# Altium footprint library PcbLib1.PcbLib: 17 footprints (part 1 of 2)
Each footprint in its own frame and in the unit in brackets; x right, y up, seen from the top. Pads: shape width x height; smd on the part's side, far side on the other; paste and mask are expansions set on the pad; w line width, h text height; cw(c..) or ccw(c..) is an arc to the next point about the centre after c.
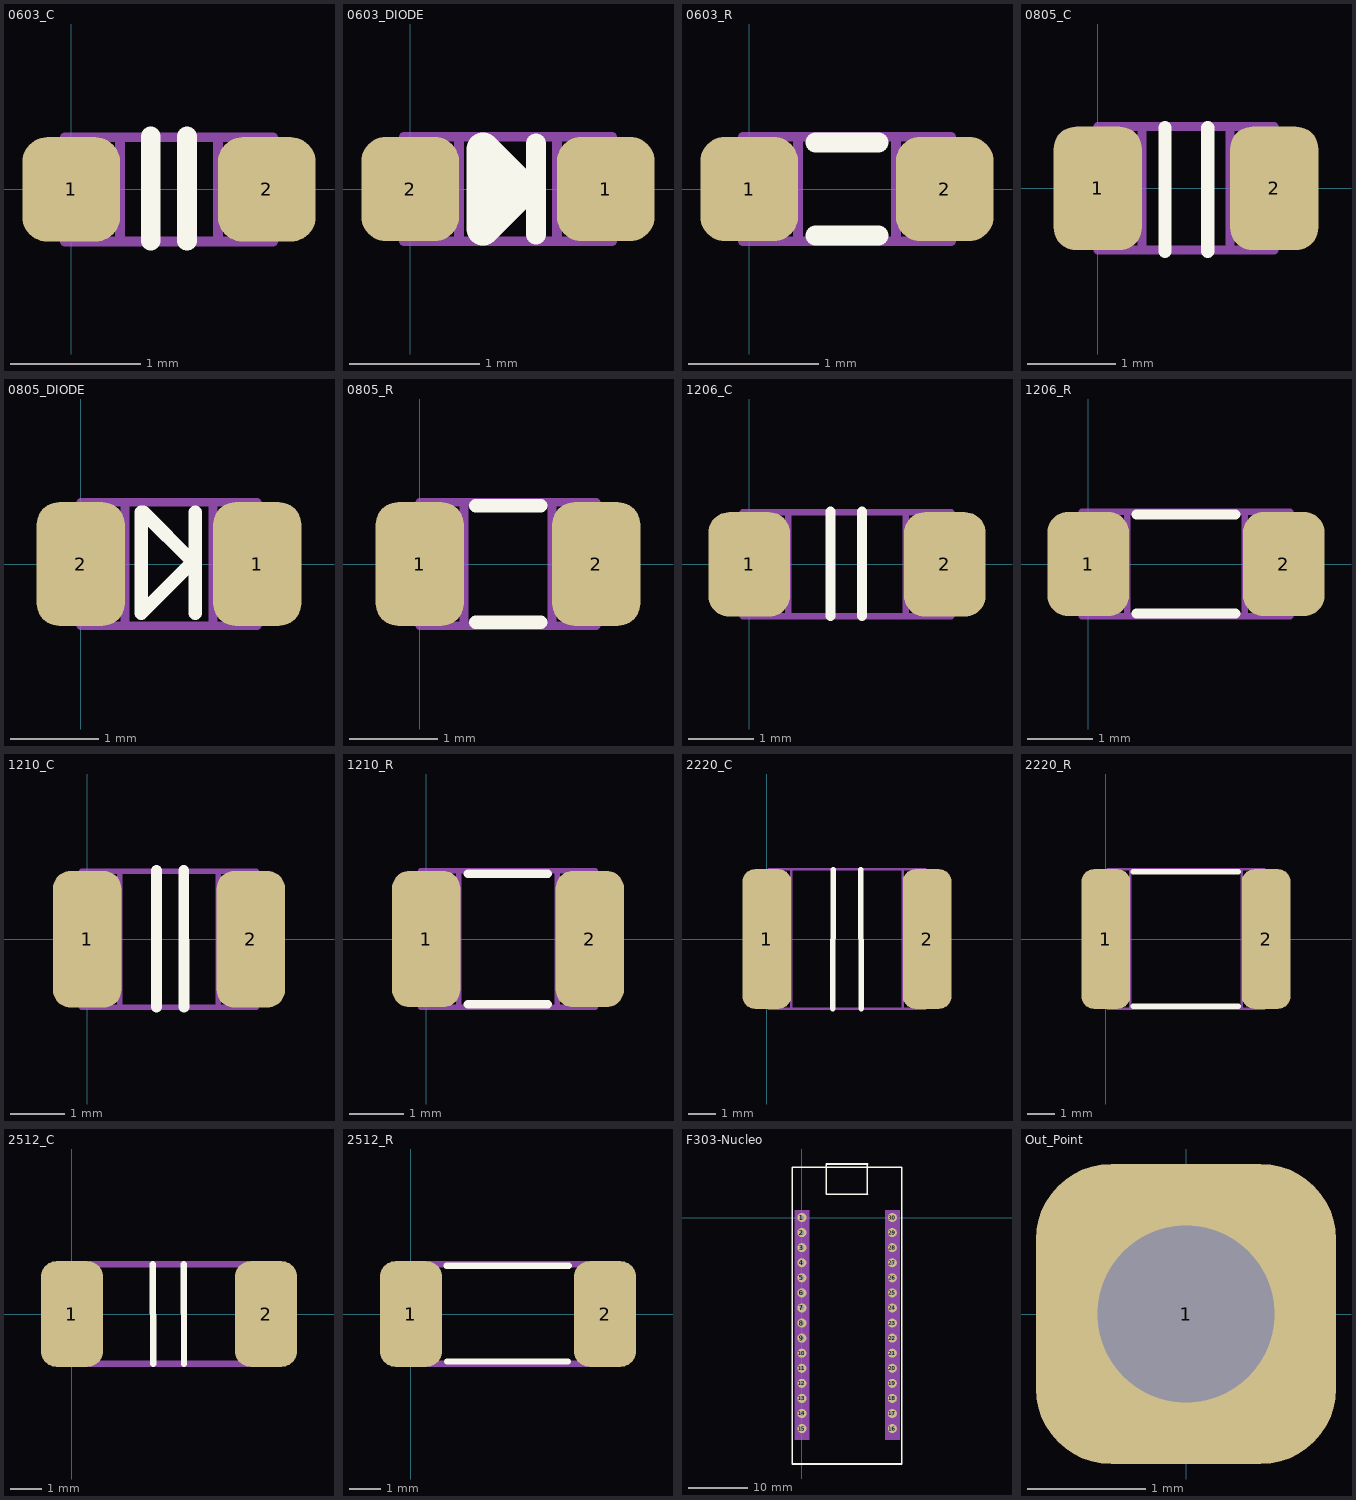
[diagram p0: the footprints below, top view; thin cyan lines are the x and y axes]

## 0603_C [mm]
pads (2):
  rrect50% 0.75x0.8 smd: 1(0,0) 2(1.5,0)
Top Overlay:
  lines w0.152: 0.61,-0.394 0.61,0.406 ; 0.889,-0.394 0.889,0.406
Mechanical 1:
  lines w0.075: 0.375,-0.4 0.375,0.4 ; 1.125,-0.4 1.125,0.4 ; -0.05,-0.4 -0.05,0.4 1.55,0.4 1.55,-0.4 -0.05,-0.4

## 0603_DIODE [mm]
pads (2):
  rrect50% 0.75x0.8 smd: 1(1.5,0) 2(0,0)
Top Overlay:
  lines w0.152: 0.965,-0.35 0.965,0.35
  lines w0.254: 0.559,-0.305 0.559,0.305 0.864,0 0.559,-0.305
Mechanical 1:
  lines w0.075: 0.375,-0.4 0.375,0.4 ; 1.125,-0.4 1.125,0.4 ; -0.05,-0.4 1.55,-0.4 1.55,0.4 -0.05,0.4 -0.05,-0.4

## 0603_R [mm]
pads (2):
  rrect50% 0.75x0.8 smd: 1(0,0) 2(1.5,0)
Top Overlay:
  lines w0.152: 0.508,-0.356 0.991,-0.356 ; 0.508,0.356 0.991,0.356
Mechanical 1:
  lines w0.075: 0.375,-0.4 0.375,0.4 ; 1.125,-0.4 1.125,0.4 ; -0.05,-0.4 -0.05,0.4 1.55,0.4 1.55,-0.4 -0.05,-0.4

## 0805_C [mm]
pads (2):
  rrect50% 1x1.4 smd: 1(0,0) 2(2,0)
Top Layer:
  region: 0.024,0.339
  region: 0.024,0.339
Top Overlay:
  lines w0.152: 0.762,-0.714 0.762,0.686 ; 1.245,-0.714 1.245,0.686
Mechanical 1:
  lines w0.1: 0.5,-0.7 0.5,0.7 ; 1.5,-0.7 1.5,0.7 ; 0,-0.7 0,0.7 2,0.7 2,-0.7 0,-0.7

## 0805_DIODE [mm]
pads (2):
  rrect50% 1x1.4 smd: 1(2,0) 2(0,0)
Top Layer:
  region: 0.024,0.339
  region: 0.024,0.339
Top Overlay:
  lines w0.152: 0.686,0.584 0.686,-0.559 1.27,0.025 0.711,0.584 ; 1.295,-0.559 1.295,0.584
Mechanical 1:
  lines w0.1: 0.5,-0.7 0.5,0.7 ; 1.5,-0.7 1.5,0.7 ; 0,-0.7 0,0.7 2,0.7 2,-0.7 0,-0.7

## 0805_R [mm]
pads (2):
  rrect50% 1x1.4 smd: 1(0,0) 2(2,0)
Top Layer:
  region: 0.024,0.339
  region: 0.024,0.339
Top Overlay:
  lines w0.152: 0.635,-0.66 1.372,-0.66 ; 0.635,0.66 1.372,0.66
Mechanical 1:
  lines w0.1: 0.5,-0.7 0.5,0.7 ; 1.5,-0.7 1.5,0.7 ; 0,-0.7 2,-0.7 2,0.7 0,0.7 0,-0.7

## 1206_C [mm]
pads (2):
  rrect50% 1.25x1.6 smd: 1(0,0) 2(3,0)
Top Overlay:
  lines w0.152: 1.245,-0.79 1.245,0.81 ; 1.727,-0.79 1.727,0.81
Mechanical 1:
  lines w0.1: 0.6,-0.8 0.6,0.8 ; 2.4,-0.8 2.4,0.8 ; -0.1,-0.8 -0.1,0.8 3.1,0.8 3.1,-0.8 -0.1,-0.8

## 1206_R [mm]
pads (2):
  rrect50% 1.25x1.6 smd: 1(0,0) 2(3,0)
Top Overlay:
  lines w0.152: 0.737,-0.762 2.261,-0.762 ; 0.737,0.762 2.261,0.762
Mechanical 1:
  lines w0.1: 0.6,-0.8 0.6,0.8 ; 2.4,-0.8 2.4,0.8 ; -0.1,-0.8 -0.1,0.8 3.1,0.8 3.1,-0.8 -0.1,-0.8

## 1210_C [mm]
pads (2):
  rrect50% 1.25x2.5 smd: 1(0,0) 2(3,0)
Top Overlay:
  lines w0.2: 1.27,-1.245 1.27,1.259 ; 1.77,1.259 1.778,-1.245
Mechanical 1:
  lines w0.1: 0.6,-1.25 0.6,1.25 ; 2.4,-1.25 2.4,1.25 ; -0.1,-1.25 -0.1,1.25 3.1,1.25 3.1,-1.25 -0.1,-1.25

## 1210_R [mm]
pads (2):
  rrect50% 1.25x2.5 smd: 1(0,0) 2(3,0)
Top Overlay:
  lines w0.152: 0.762,-1.194 2.235,-1.194 ; 0.762,1.194 2.235,1.194
Mechanical 1:
  lines w0.1: 0.6,-1.25 0.6,1.25 ; 2.4,-1.25 2.4,1.25 ; -0.1,-1.25 -0.1,1.25 3.1,1.25 3.1,-1.25 -0.1,-1.25

## 2220_C [mm]
pads (2):
  rrect50% 1.75x5 smd: 1(0,0) 2(5.75,0)
Top Overlay:
  lines w0.2: 2.362,-2.489 2.375,2.477 ; 3.375,2.477 3.378,-2.489
Mechanical 1:
  lines w0.1: 0.875,-2.5 0.875,2.5 ; 4.875,-2.5 4.875,2.5 ; 0.075,-2.5 5.675,-2.5 5.675,2.5 0.075,2.5 0.075,-2.5

## 2220_R [mm]
pads (2):
  rrect50% 1.75x5 smd: 1(0,0) 2(5.75,0)
Top Overlay:
  lines w0.2: 0.991,-2.413 4.75,-2.413 ; 0.991,2.413 4.75,2.413
Mechanical 1:
  lines w0.1: 0.875,-2.5 0.875,2.5 ; 4.875,-2.5 4.875,2.5 ; 0.075,-2.5 5.675,-2.5 5.675,2.5 0.075,2.5 0.075,-2.5

## 2512_C [mm]
pads (2):
  rrect50% 2x3.4 smd: 1(0,0) 2(6.25,0)
Top Overlay:
  lines w0.2: 2.6,1.602 2.616,-1.6 ; 3.6,1.602 3.607,-1.6
Mechanical 1:
  lines w0.1: 0.725,-1.6 0.725,1.6 ; 5.525,-1.6 5.525,1.6
  lines w0.2: -0.075,-1.6 6.325,-1.6 6.325,1.6 -0.075,1.6 -0.075,-1.6

## 2512_R [mm]
pads (2):
  rrect50% 2x3.4 smd: 1(0,0) 2(6.25,0)
Top Overlay:
  lines w0.2: 1.143,1.549 5.08,1.549 ; 1.168,-1.524 5.055,-1.524
Mechanical 1:
  lines w0.1: 0.725,-1.6 0.725,1.6 ; 5.525,-1.6 5.525,1.6
  lines w0.2: -0.075,-1.6 6.325,-1.6 6.325,1.6 -0.075,1.6 -0.075,-1.6

## F303-Nucleo [mil]
pads (30):
  round 60 hole 30: 1(0,0) 2(0,-100) 3(0,-200) 4(0,-300) 5(0,-400) 6(0,-500) 7(0,-600) 8(0,-700) 9(0,-800) 10(0,-900) 11(0,-1000) 12(0,-1100) 13(0,-1200) 14(0,-1300) 15(0,-1400) 16(600,-1400) 17(600,-1300) 18(600,-1200) 19(600,-1100) 20(600,-1000) 21(600,-900) 22(600,-800) 23(600,-700) 24(600,-600) 25(600,-500) 26(600,-400) 27(600,-300) 28(600,-200) 29(600,-100) 30(600,0)
Top Overlay:
  lines w10: 160,351.85 160,155 435.59,155 ; 160,355 435.59,355 ; 435,155 435,351.85 ; -65,-1635 -65,333.5 663.35,333.5 663.35,-1635 -65,-1635
Mechanical 1:
  rectangle: -50,-1475 50,50
  rectangle: 550,-1475 650,50

## Out_Point [mm]
pads (1):
  rrect50% 2.54x2.54 hole 1.5: 1(0,0)